# EAGLE library part AS1753_QUAD_SPST (library CC2530_PCB_TL - Backup Copy - DO NOT EDIT)
QUAD SPST SWITCH AS1753S
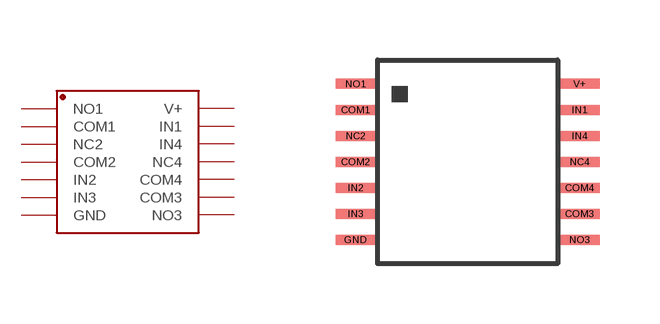
[diagram p9: symbol with the pads of AS1753_QUAD_SPST; footprint AS1753_QUAD_SPST]

Designator prefix -

## AS1753_QUAD_SPST  [AS1753_QUAD_SPST]
COM1  COM1
COM2  COM2
COM3  COM3
COM4  COM4
GND  GND  pwr
IN1  IN1
IN2  IN2
IN3  IN3
IN4  IN4
NC2  NC2
NC4  NC4
NO1  NO1
NO3  NO3
V+  V+  pwr

## Footprint AS1753_QUAD_SPST (pad centres in mm)
QUAD SPST SWITCH AS1753S
smd 1 x 0.25: COM1 -2.8,1.3; COM2 -2.8,0; COM3 2.8,-1.3; COM4 2.8,-0.65; GND -2.8,-1.95; IN1 2.8,1.3; IN2 -2.8,-0.65; IN3 -2.8,-1.3; IN4 2.8,0.65; NC2 -2.8,0.65; NC4 2.8,0; NO1 -2.8,1.95; NO3 2.8,-1.95; V+ 2.8,1.95